# Altium schematic symbol library SAMTEC_SSW.SchLib: 2 symbols
Pins are listed as number, name and electrical type; pins without a type are passive.

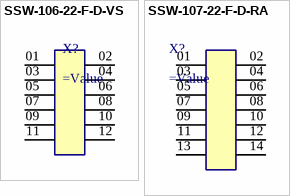
[diagram p0: symbols SSW-106-22-F-D-VS to SSW-107-22-F-D-RA]

## SSW-106-22-F-D-VS
designator X?
Tiger Buy™ Socket Strip with PCB Tails, .100" Pit
pins: 01, 02, 03, 04, 05, 06, 07, 08, 09, 10, 11, 12

## SSW-107-22-F-D-RA
designator X?
Tiger Buy™ Socket Strip with PCB Tails, .100" Pit
pins: 01, 02, 03, 04, 05, 06, 07, 08, 09, 10, 11, 12, 13, 14